# Altium schematic symbol library Meine_library.SchLib: 6 symbols
Pins are listed as number, name and electrical type; pins without a type are passive.

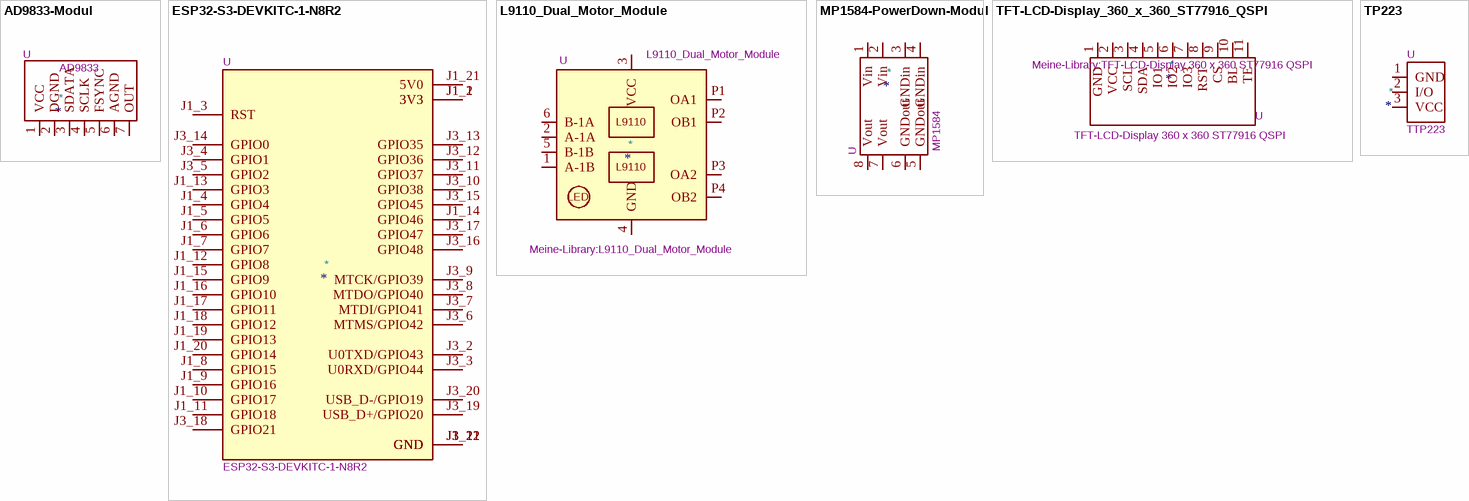
[diagram p0: symbols AD9833-Modul to TP223]

## AD9833-Modul
designator *  value AD9833  Reference: U
Footprint: Meine-Library:AD9833-Modul-Hochkant
pins: 1 VCC, 2 DGND, 3 SDATA, 4 SCLK, 5 FSYNC, 6 AGND, 7 OUT

## ESP32-S3-DEVKITC-1-N8R2
designator *  value ESP32-S3-DEVKITC-1-N8R2  Reference: U
MANUFACTURER: Espressif; MF: Espressif Systems; Description_1: WiFi Development Tools - 802.11 ESP32-S3 general-purpose development board, embeds ESP32-S3-WROOM-1-N8R2, with pin header; Footprint: Meine-Library:XCVR_ESP32-S3-DEVKITC-1-N8R2; Package: None; Price: None; Check_prices: https://www.snapeda.com/parts/ESP32-S3-DEVKITC-1-N8R2/Espressif+Systems/view-part/?ref=eda; STANDARD: Manufacturer Recommendations; PARTREV: V1; SnapEDA_Link: https://www.snapeda.com/parts/ESP32-S3-DEVKITC-1-N8R2/Espressif+Systems/view-part/?ref=snap; MP: ESP32-S3-DEVKITC-1-N8R2; Availability: In Stock
pins: J1_1 3V3, J1_2 3V3, J1_3 RST, J1_4 GPIO4, J1_5 GPIO5, J1_6 GPIO6, J1_7 GPIO7, J1_8 GPIO15, J1_9 GPIO16, J1_10 GPIO17, J1_11 GPIO18, J1_12 GPIO8, J1_13 GPIO3, J1_14 GPIO46, J1_15 GPIO9, J1_16 GPIO10, J1_17 GPIO11, J1_18 GPIO12, J1_19 GPIO13, J1_20 GPIO14, J1_21 5V0, J1_22 GND, J3_1 GND, J3_2 U0TXD/GPIO43, J3_3 U0RXD/GPIO44, J3_4 GPIO1, J3_5 GPIO2, J3_6 MTMS/GPIO42, J3_7 MTDI/GPIO41, J3_8 MTDO/GPIO40, J3_9 MTCK/GPIO39, J3_10 GPIO38, J3_11 GPIO37, J3_12 GPIO36, J3_13 GPIO35, J3_14 GPIO0, J3_15 GPIO45, J3_16 GPIO48, J3_17 GPIO47, J3_18 GPIO21, J3_19 USB_D+/GPIO20, J3_20 USB_D-/GPIO19, J3_21 GND, J3_22 GND

## L9110_Dual_Motor_Module
designator *  value L9110_Dual_Motor_Module  Footprint: Meine-Library:L9110_Dual_Motor_Module  Reference: U
pins: 1 A-1B, 2 A-1A, 3 VCC, 4 GND, 5 B-1B, 6 B-1A, P1 OA1, P2 OB1, P3 OA2, P4 OB2
text: L9110; LED

## MP1584-PowerDown-Modul
designator *  value MP1584  Reference: U
Footprint: Meine-Library:MP1584-PowerDown-Modul
pins: 1 Vin, 2 Vin, 3 GNDin, 4 GNDin, 5 GNDout, 6 GNDout, 7 Vout, 8 Vout

## TFT-LCD-Display_360_x_360_ST77916_QSPI
designator *  value TFT-LCD-Display 360 x 360 ST77916 QSPI  Footprint: Meine-Library:TFT-LCD-Display 360 x 360 ST77916 QSPI  Reference: U
pins: 1 GND, 2 VCC, 3 SCL, 4 SDA, 5 IO1, 6 IO2, 7 IO3, 8 RST, 9 CS, 10 BL, 11 TE

## TP223
designator *  value TTP223  Reference: U
Footprint: Meine-Library:TTP223
pins: 1 GND, 2 I/O, 3 VCC